# EAGLE library part BEYER (library ampex)
Ampex/Beyer Head Input Transformer
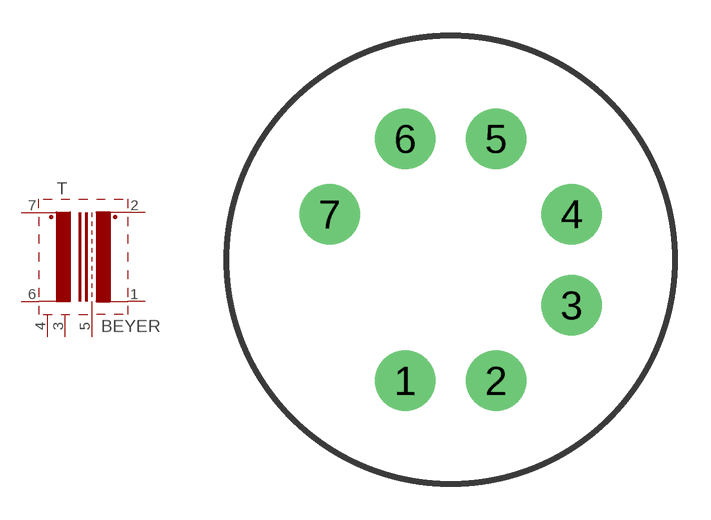
[diagram p12: symbol with the pads of BEYER; footprint BEYER]

Designator prefix T

## BEYER  [BEYER]
1  1  pas
2  2  pas
3  3  pas
4  4  pas
5  5  pas
6  6  pas
7  7  pas

## Footprint BEYER (pad centres in mm)
Head Input Transformer Beyer 4580199-01
drill 1.422 pad 2.54: 1 -1.905,-5.08; 2 1.905,-5.08; 3 5.08,-1.905; 4 5.08,1.905; 5 1.905,5.08; 6 -1.905,5.08; 7 -5.08,1.905